# EAGLE library part WE-LAN_749023016 (library Wurth_Signal & Communications_WE-LAN)
WE-LAN LAN Transformer 1000 Base-T Characteristics Power over Ethernet up to 150 Watts and speeds up to 1 Gbit/s Available in SMD Compliant with standards: IEEE 802.3u, IEEE 802.3ab, IEEE 802.3af, IEEE 802.3at and upcoming IEEE 802.3bt Applications Suitable for industrial temperatures from –40 °C up to +125 °C Compatible to Industrial Ethernet systems like EtherCAT or Profinet Compliant with most IC’s for Ethernet applications such as Microchip, Texas Instruments, Broadcom, Linear Technology Hubs, Routers, Switches, IP cameras, IoT applications <https://katalog.we-online.com/media/images/v2/o14800v209%20WE-LAN%20-%20Kopie.jpg> Details see: https://katalog.we-online.com/en/pbs/WE-LAN Updated by Ella Wu 2019-07-17 2019 (C) Würth Elektronik
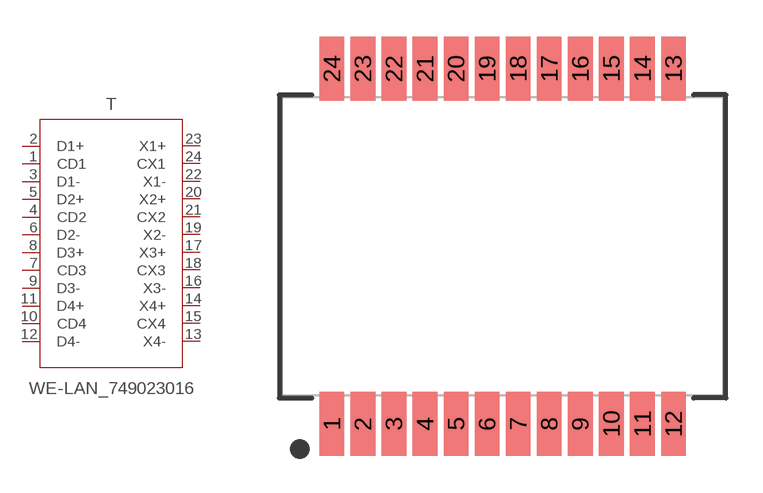
[diagram p36: symbol with the pads of WE-LAN_749023016; footprint WE-LAN_749023016]

Designator prefix T

## WE-LAN_749023016 (DATA-RATE: 1000 Base-T; DATASHEET-URL: https://www.we-online.com/catalog/datasheet/749023016.pdf; HPLE: Yes; L: 350uH; MOUNT: SMT; PART-NUMBER: 749023016; POE: PoE (up to 350 mA); PORTS: 1; VALUE: 749023016; VT: 1500 V (RMS))  [WE-LAN_749023016]
1  CD1  pas
2  D1+  pas
3  D1-  pas
4  CD2  pas
5  D2+  pas
6  D2-  pas
7  CD3  pas
8  D3+  pas
9  D3-  pas
10  CD4  pas
11  D4+  pas
12  D4-  pas
13  X4-  pas
14  X4+  pas
15  CX4  pas
16  X3-  pas
17  X3+  pas
18  CX3  pas
19  X2-  pas
20  X2+  pas
21  CX2  pas
22  X1-  pas
23  X1+  pas
24  CX1  pas

## Footprint WE-LAN_749023016 (pad centres in mm)
WE-LAN LAN Transformer 1000 Base-T
smd 1.01 x 2.62: 1 -6.985,-7.265; 2 -5.715,-7.265; 3 -4.445,-7.265; 4 -3.175,-7.265; 5 -1.905,-7.265; 6 -0.635,-7.265; 7 0.635,-7.265; 8 1.905,-7.265; 9 3.175,-7.265; 10 4.445,-7.265; 11 5.715,-7.265; 12 6.985,-7.265; 13 6.985,7.265; 14 5.715,7.265; 15 4.445,7.265; 16 3.175,7.265; 17 1.905,7.265; 18 0.635,7.265; 19 -0.635,7.265; 20 -1.905,7.265; 21 -3.175,7.265; 22 -4.445,7.265; 23 -5.715,7.265; 24 -6.985,7.265